# Altium footprint library PcbLib.PcbLib: 4 footprints
Each footprint in its own frame and in the unit in brackets; x right, y up, seen from the top. Pads: shape width x height; smd on the part's side, far side on the other; paste and mask are expansions set on the pad; w line width, h text height; cw(c..) or ccw(c..) is an arc to the next point about the centre after c.
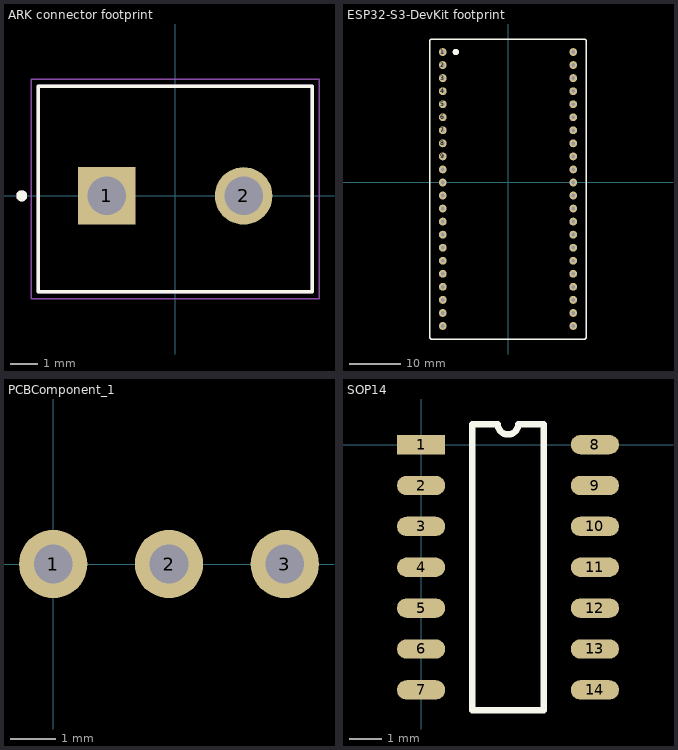
[diagram p0: the footprints below, top view; thin cyan lines are the x and y axes]

## ARK connector footprint [mm]
pads (2):
  rect 2.1x2.1 hole 1.4: 1(-2.5,0)
  round 2.1 hole 1.4: 2(2.5,0)
Top Overlay:
  circle w0.2: c-5.6,0 r0.1
  lines w0.127: -5,-3.5 -5,4 5,4 5,-3.5 -5,-3.5
Mechanical 13:
  circle w0.2: c-5.6,0 r0.1
  lines w0.127: -5,-3.5 5,-3.5 5,4 -5,4 -5,-3.5
Mechanical 15:
  lines w0.05: -5.25,-3.75 5.25,-3.75 5.25,4.25 -5.25,4.25 -5.25,-3.75
3D body "KF301-2P--3DModel-STEP-510211.STEP": height 10, standoff -4.5, extent -5.6,-3.369 5,4.131

## ESP32-S3-DevKit footprint [mil]
pads (44):
  round 60 hole 30: 1(-500,1000) 2(-500,900) 3(-500,800) 4(-500,700) 5(-500,600) 6(-500,500) 7(-500,400) 8(-500,300) 9(-500,200) 10(-500,100) 11(-500,0) 12(-500,-100) 13(-500,-200) 14(-500,-300) 15(-500,-400) 16(-500,-500) 17(-500,-600) 18(-500,-700) 19(-500,-800) 20(-500,-900) 21(-500,-1000) 22(-500,-1100) 23(500,-1100) 24(500,-1000) 25(500,-900) 26(500,-800) 27(500,-700) 28(500,-600) 29(500,-500) 30(500,-400) 31(500,-300) 32(500,-200) 33(500,-100) 34(500,0) 35(500,100) 36(500,200) 37(500,300) 38(500,400) 39(500,500) 40(500,600) 41(500,700) 42(500,800) 43(500,900) 44(500,1000)
Top Overlay:
  circle w25: c-400,1000 r12
  lines w10: -600,-1190 -600,1090 -590,1100 590,1100 600,1090 600,-1190 590,-1200 -590,-1200 -600,-1190
3D body "ESP32-S3-DEVKITC-1-N8R2--3DModel-STEP-56544.STEP": height 360.94, standoff -166.22, extent -500,-1400 500,1341.73

## PCBComponent_1 [mm]
pads (3):
  round 1.5 hole 0.85: 1(0,0) 2(2.54,0) 3(5.08,0)
3D body "022035035.stp": height 5.8, standoff -3.6, extent -2.45,-3.1 7.45,1.8

## SOP14 [mm]
pads (14):
  rect 1.5x0.6 smd: 1(0,0)
  oval 1.5x0.6 smd: 2(0,-1.27) 3(0,-2.54) 4(0,-3.81) 5(0,-5.08) 6(0,-6.35) 7(0,-7.62) 8(5.4,0) 9(5.4,-1.27) 10(5.4,-2.54) 11(5.4,-3.81) 12(5.4,-5.08) 13(5.4,-6.35) 14(5.4,-7.62)
Top Overlay:
  lines w0.2: 1.585,-8.255 3.815,-8.255 3.815,0.635 3.017,0.635 cw(c2.7,0.635) 2.382,0.635 1.585,0.635 1.585,-8.255
3D body "soic-14.stp": height 1.64, standoff 0.04, extent -0.356,-8.128 5.69,0.508